# Altium schematic symbol library Resistor_0805.SchLib: 259 symbols (part 4 of 6)
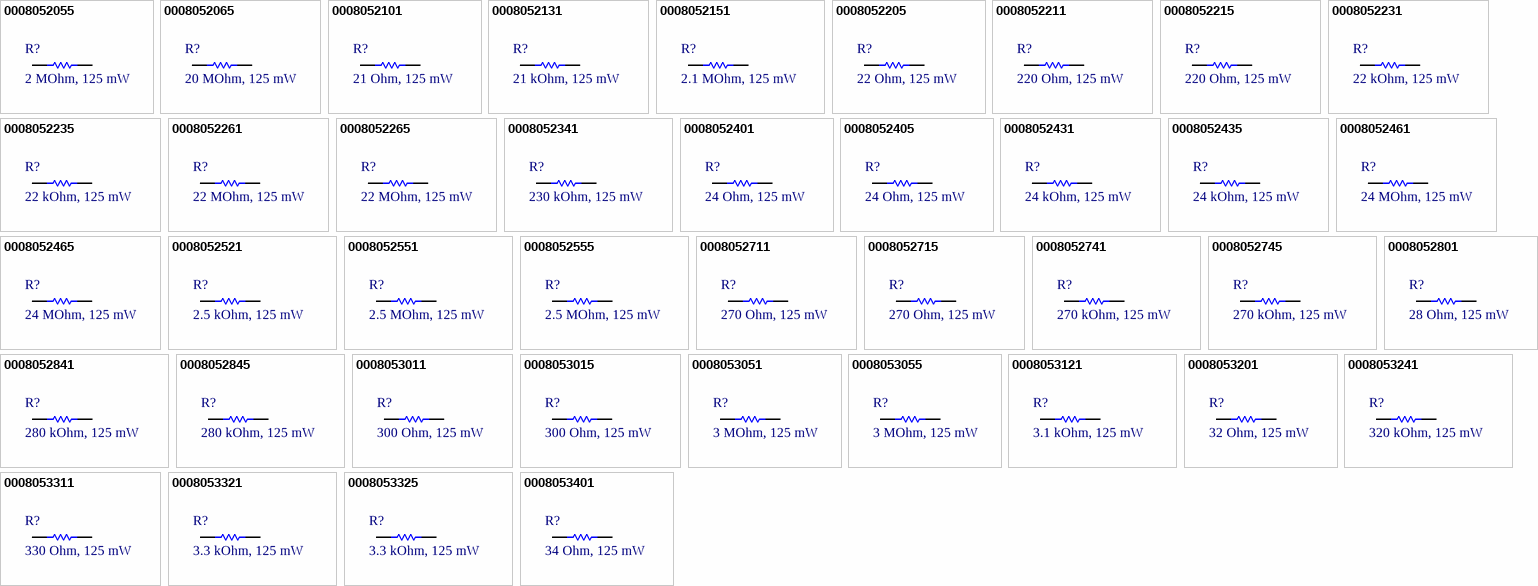
[diagram p9: symbols 0008052055 to 0008053401]

## 0008052341
designator R?, comment 230 kOhm, 125 mW
RES, size 0805, 230 kOhm, 1/8 W, 1%; Manufacturer: Royalohm; Manufacturer Part Number: 0805W8F2303T5E; Rated Power: 125 mW; Tolerance: +/-1%; Resistance: 230 kOhm; Supplier 1 URL: https://www.mouser.vn/ProductDetail/Royalohm/0805W8F2303T5E?qs=e8oIoAS2J1TfhjSl20ty9Q%3D%3D; Supplier 2 URL: N/A; Supplier 3 URL: N/A; Value: 230 kOhm; Packaging: Tape and Reel; Supplier 1: Mouser; Supplier 1 Part Number: 303-0805W8F2303T5E; Supplier 2: Digi-Key; Supplier 2 Part Number: N/A; Supplier 3: thegioiic; Supplier 3 Part Number: OEM; ComponentLink1Description: Datasheet; ComponentLink1URL: https://www.mouser.vn/datasheet/2/1365/1-3044649.pdf; Mount: SMD/SMT; Operating Temperature Max: + 85 C; Operating Temperature Min: - 40 C; Package / Case: 0805; LCSC Part #: N/A
footprint RES_0805 (Chip Resistor, 2-Leads, Body 2.05x1.25mm, IPC Medium Density)
simulation model R_Resistor_Default (Model Description)
signal-integrity model Resistor Model
pins: 1, 2

## 0008052401
designator R?, comment 24 Ohm, 125 mW
RES, size 0805, 24 Ohm, 1/8 W, 1%; Manufacturer: Bourns; Manufacturer Part Number: CR0805-FX-24R0ELF; Rated Power: 125 mW; Resistance: 24 Ohm; Value: 24 Ohm; Tolerance: +/-1%; Supplier 1 URL: https://www.mouser.vn/ProductDetail/Bourns/CR0805-FX-24R0ELF?qs=4vGXhLEMbUyS5LbGuwLBiw%3D%3D; Supplier 2 URL: https://www.digikey.com/en/products/detail/yageo/RC0805FR-0724RL/727755; Supplier 3 URL: N/A; Packaging: Tape and Reel; Supplier 1: Mouser; Supplier 1 Part Number: 652-CR0805FX-24R0ELF; Supplier 2: Digi-Key; Supplier 2 Part Number: 311-24.0CRTR-ND - Tape & Reel (TR); Supplier 3: thegioiic; Supplier 3 Part Number: OEM; ComponentLink1Description: Datasheet; ComponentLink1URL: https://www.mouser.vn/datasheet/2/54/cr-1858361.pdf; Mount: SMD/SMT; Operating Temperature Max: + 85 C; Operating Temperature Min: - 40 C; Package / Case: 0805; LCSC Part #: N/A
footprint RES_0805 (Chip Resistor, 2-Leads, Body 2.05x1.25mm, IPC Medium Density)
simulation model R_Resistor_Default (Model Description)
signal-integrity model Resistor Model
pins: 1, 2

## 0008052405
designator R?, comment 24 Ohm, 125 mW
RES, size 0805, 24 Ohm, 1/8 W, 5%; Manufacturer: YAGEO; Manufacturer Part Number: AR0805JR-0724RL; Rated Power: 125 mW; Resistance: 24 Ohm; Value: 24 Ohm; Tolerance: +/-5%; Supplier 1 URL: https://www.mouser.vn/ProductDetail/YAGEO/AR0805JR-0724RL?qs=tub3WQyKOl9Td0xHEAWkDQ%3D%3D; Supplier 2 URL: https://www.digikey.com/en/products/detail/yageo/RC0805JR-0724RL/728289; Supplier 3 URL: https://www.thegioiic.com/dien-tro-24-ohm-0805-5-; Packaging: Tape and Reel; Supplier 1: Mouser; Supplier 1 Part Number: 603-AR0805JR-0724RL; Supplier 2: Digi-Key; Supplier 2 Part Number: 311-24ARTR-ND - Tape & Reel (TR); Supplier 3: thegioiic; Supplier 3 Part Number: OEM; ComponentLink1Description: Datasheet; ComponentLink1URL: https://www.mouser.vn/datasheet/2/447/PYu_AR_51_RoHS_L_7-3003081.pdf; Mount: SMD/SMT; Operating Temperature Max: + 85 C; Operating Temperature Min: - 40 C; Package / Case: 0805; LCSC Part #: N/A
footprint RES_0805 (Chip Resistor, 2-Leads, Body 2.05x1.25mm, IPC Medium Density)
simulation model R_Resistor_Default (Model Description)
signal-integrity model Resistor Model
pins: 1, 2

## 0008052431
designator R?, comment 24 kOhm, 125 mW
RES, size 0805, 24 kOhm, 1/8 W, 1%; Manufacturer: TE Connectivity / Holsworthy; Manufacturer Part Number: CRG0805F24K; Rated Power: 125 mW; Resistance: 24 kOhm; Value: 24 kOhm; Tolerance: +/-1%; Supplier 1 URL: https://www.mouser.vn/ProductDetail/TE-Connectivity-Holsworthy/CRG0805F24K?qs=5Dj%252BCDyFp7jSU1utfpqO1w%3D%3D; Supplier 2 URL: https://www.digikey.com/en/products/detail/yageo/RC0805FR-0724KL/727756; Supplier 3 URL: N/A; Packaging: Tape and Reel; Supplier 1: Mouser; Supplier 1 Part Number: 279-CRG0805F24K; Supplier 2: Digi-Key; Supplier 2 Part Number: 311-24.0KCRTR-ND - Tape & Reel (TR); Supplier 3: thegioiic; Supplier 3 Part Number: OEM; ComponentLink1Description: Datasheet; ComponentLink1URL: https://www.mouser.vn/datasheet/2/418/NG_CD_1623163_BA-655702.pdf; Mount: SMD/SMT; Operating Temperature Max: + 85 C; Operating Temperature Min: - 40 C; Package / Case: 0805; LCSC Part #: N/A
footprint RES_0805 (Chip Resistor, 2-Leads, Body 2.05x1.25mm, IPC Medium Density)
simulation model R_Resistor_Default (Model Description)
signal-integrity model Resistor Model
pins: 1, 2

## 0008052435
designator R?, comment 24 kOhm, 125 mW
RES, size 0805, 24 kOhm, 1/8 W, 5%; Manufacturer: Bourns; Manufacturer Part Number: CR0805-JW-243ELF; Rated Power: 125 mW; Resistance: 24 kOhm; Value: 24 kOhm; Tolerance: +/-5%; Supplier 1 URL: https://www.mouser.vn/ProductDetail/Bourns/CR0805-JW-243ELF?qs=%252BcBkmVQIZ2SWVtow93mBjQ%3D%3D; Supplier 2 URL: https://www.digikey.com/en/products/detail/bourns-inc/CR0805-JW-243ELF/3785280; Supplier 3 URL: https://www.thegioiic.com/dien-tro-24-kohm-0805-5; Packaging: Tape and Reel; Supplier 1: Mouser; Supplier 1 Part Number: 652-CR0805JW-243ELF; Supplier 2: Digi-Key; Supplier 2 Part Number: 118-CR0805-JW-243ELFTR-ND - Tape & Reel (TR); Supplier 3: thegioiic; Supplier 3 Part Number: OEM; ComponentLink1Description: Datasheet; ComponentLink1URL: https://www.mouser.vn/datasheet/2/418/NG_CD_1623163_BA-655702.pdf; Mount: SMD/SMT; Operating Temperature Max: + 85 C; Operating Temperature Min: - 40 C; Package / Case: 0805; LCSC Part #: N/A
footprint RES_0805 (Chip Resistor, 2-Leads, Body 2.05x1.25mm, IPC Medium Density)
simulation model R_Resistor_Default (Model Description)
signal-integrity model Resistor Model
pins: 1, 2

## 0008052461
designator R?, comment 24 MOhm, 125 mW
RES, size 0805, 24 MOhm, 1/8 W, 1%; Manufacturer: KOA Speer Electronics, Inc.; Manufacturer Part Number: HV732HTTE2405F; Rated Power: 125 mW; Resistance: 24 MOhm; Value: 24 MOhm; Tolerance: +/-1%; Supplier 1 URL: N/A; Supplier 2 URL: https://www.digikey.com/en/products/detail/koa-speer-electronics-inc/HV732HTTE2405F/10132853?s=N4IgjCBcoMxaBjKAzAhgGwM4FMA0IB7KAbXDBggF18AHAFyhAGU6AnASwDsBzEAX3wAmAAwAOAKzwQSSGix5CJEIIAsAAgCyAeQAWAW0whqIeowCqndnS3IN2VJgCurbPz58gA; Supplier 3 URL: N/A; Packaging: Tape and Reel; Supplier 1: Mouser; Supplier 1 Part Number: N/A; Supplier 2: Digi-Key; Supplier 2 Part Number: 2019-HV732HTTE2405FTR-ND - Tape & Reel (TR); Supplier 3: thegioiic; Supplier 3 Part Number: OEM; ComponentLink1Description: Datasheet; ComponentLink1URL: https://www.koaspeer.com/pdfs/HV73.pdf; Mount: SMD/SMT; Operating Temperature Max: + 85 C; Operating Temperature Min: - 40 C; Package / Case: 0805; LCSC Part #: N/A
footprint RES_0805 (Chip Resistor, 2-Leads, Body 2.05x1.25mm, IPC Medium Density)
simulation model R_Resistor_Default (Model Description)
signal-integrity model Resistor Model
pins: 1, 2

## 0008052465
designator R?, comment 24 MOhm, 125 mW
RES, size 0805, 24 MOhm, 1/8 W, 5%; Manufacturer: KOA Speer Electronics, Inc.; Manufacturer Part Number: HV732ATTD246J; Rated Power: 125 mW; Resistance: 24 MOhm; Value: 24 MOhm; Tolerance: +/-5%; Supplier 1 URL: N/A; Supplier 2 URL: https://www.mouser.vn/ProductDetail/KOA-Speer/HV732ATTD246J?qs=UGeEjMFwUpRa%252BFVrwwDXrw%3D%3D; Supplier 3 URL: N/A; Packaging: Tape and Reel; Supplier 1: Mouser; Supplier 1 Part Number: N/A; Supplier 2: Digi-Key; Supplier 2 Part Number: 660-HV732ATTD246J; Supplier 3: thegioiic; Supplier 3 Part Number: OEM; ComponentLink1Description: Datasheet; ComponentLink1URL: https://www.mouser.vn/datasheet/2/219/HV73-11287.pdf; Mount: SMD/SMT; Operating Temperature Max: + 85 C; Operating Temperature Min: - 40 C; Package / Case: 0805; LCSC Part #: N/A
footprint RES_0805 (Chip Resistor, 2-Leads, Body 2.05x1.25mm, IPC Medium Density)
simulation model R_Resistor_Default (Model Description)
signal-integrity model Resistor Model
pins: 1, 2

## 0008052521
designator R?, comment 2.5 kOhm, 125 mW
RES, size 0805, 2.5 kOhm, 1/8 W, 1%; Manufacturer: Royalohm; Manufacturer Part Number: 0805W8F2501T5E; Rated Power: 125 mW; Tolerance: +/-1%; Resistance: 2.5 kOhm; Supplier 1 URL: https://www.mouser.vn/ProductDetail/Royalohm/0805W8F2501T5E?qs=e8oIoAS2J1Qc4Ic0dQUBsw%3D%3D; Supplier 2 URL: https://www.digikey.com/en/products/detail/meritek/CR102501F/13414399; Supplier 3 URL: N/A; Value: 2.5 kOhm; Packaging: Tape and Reel; Supplier 1: Mouser; Supplier 1 Part Number: 303-0805W8F2501T5E; Supplier 2: Digi-Key; Supplier 2 Part Number: 2997-CR102501FTR-ND - Tape & Reel (TR); Supplier 3: thegioiic; Supplier 3 Part Number: OEM; ComponentLink1Description: Datasheet; ComponentLink1URL: https://www.mouser.vn/datasheet/2/1365/1-3044649.pdf; Mount: SMD/SMT; Operating Temperature Max: + 85 C; Operating Temperature Min: - 40 C; Package / Case: 0805; LCSC Part #: N/A
footprint RES_0805 (Chip Resistor, 2-Leads, Body 2.05x1.25mm, IPC Medium Density)
simulation model R_Resistor_Default (Model Description)
signal-integrity model Resistor Model
pins: 1, 2

## 0008052551
designator R?, comment 2.5 MOhm, 125 mW
RES, size 0805, 2.5 MOhm, 1/8 W, 1%; Manufacturer: Royalohm; Manufacturer Part Number: 0805W8F2504T5E; Rated Power: 125 mW; Tolerance: +/-1%; Resistance: 2.5 MOhm; Supplier 1 URL: https://www.mouser.vn/ProductDetail/Royalohm/0805W8F2504T5E?qs=e8oIoAS2J1Q2l7BgYnDvGQ%3D%3D; Supplier 2 URL: N/A; Supplier 3 URL: N/A; Value: 2.5 MOhm; Packaging: Tape and Reel; Supplier 1: Mouser; Supplier 1 Part Number: 303-0805W8F2504T5E; Supplier 2: Digi-Key; Supplier 2 Part Number: N/A; Supplier 3: thegioiic; Supplier 3 Part Number: OEM; ComponentLink1Description: Datasheet; ComponentLink1URL: https://www.mouser.vn/datasheet/2/1365/1-3044649.pdf; Mount: SMD/SMT; Operating Temperature Max: + 85 C; Operating Temperature Min: - 40 C; Package / Case: 0805; LCSC Part #: N/A
footprint RES_0805 (Chip Resistor, 2-Leads, Body 2.05x1.25mm, IPC Medium Density)
simulation model R_Resistor_Default (Model Description)
signal-integrity model Resistor Model
pins: 1, 2

## 0008052555
designator R?, comment 2.5 MOhm, 125 mW
RES, size 0805, 2.5 MOhm, 1/8 W, 5%; Manufacturer: Ohmite; Manufacturer Part Number: HVC0805T2504JET; Rated Power: 125 mW; Tolerance: +/-5%; Resistance: 2.5 MOhm; Supplier 1 URL: https://www.mouser.vn/ProductDetail/Ohmite/HVC0805T2504JET?qs=wolJx%252BcPnTpZSJA41zZzFA%3D%3D; Supplier 2 URL: https://www.digikey.com/en/products/detail/ohmite/HVC0805T2504JET/4759727; Supplier 3 URL: N/A; Value: 2.5 MOhm; Packaging: Tape and Reel; Supplier 1: Mouser; Supplier 1 Part Number: 588-HVC0805T2504JET; Supplier 2: Digi-Key; Supplier 2 Part Number: HVC0805T2504JETTR-ND - Tape & Reel (TR); Supplier 3: thegioiic; Supplier 3 Part Number: OEM; ComponentLink1Description: Datasheet; ComponentLink1URL: https://www.mouser.vn/datasheet/2/303/res_hvc-3082600.pdf; Mount: SMD/SMT; Operating Temperature Max: + 85 C; Operating Temperature Min: - 40 C; Package / Case: 0805; LCSC Part #: N/A
footprint RES_0805 (Chip Resistor, 2-Leads, Body 2.05x1.25mm, IPC Medium Density)
simulation model R_Resistor_Default (Model Description)
signal-integrity model Resistor Model
pins: 1, 2

## 0008052711
designator R?, comment 270 Ohm, 125 mW
RES, size 0805, 270 Ohm, 1/8 W, 1%; Manufacturer: Bourns; Manufacturer Part Number: CR0805-FX-2700ELF; Rated Power: 125 mW; Resistance: 270 Ohm; Value: 270 Ohm; Tolerance: +/-1%; Supplier 1 URL: https://www.mouser.vn/ProductDetail/Bourns/CR0805-FX-2700ELF?qs=4vGXhLEMbUwfoxAMFQ260A%3D%3D; Supplier 2 URL: https://www.digikey.com/en/products/detail/yageo/RC0805FR-07270RL/727783; Supplier 3 URL: N/A; Packaging: Tape and Reel; Supplier 1: Mouser; Supplier 1 Part Number: 652-CR0805FX-2700ELF; Supplier 2: Digi-Key; Supplier 2 Part Number: 311-270CRTR-ND - Tape & Reel (TR); Supplier 3: thegioiic; Supplier 3 Part Number: OEM; ComponentLink1Description: Datasheet; ComponentLink1URL: https://www.mouser.vn/datasheet/2/54/cr-1858361.pdf; Mount: SMD/SMT; Operating Temperature Max: + 85 C; Operating Temperature Min: - 40 C; Package / Case: 0805; LCSC Part #: N/A
footprint RES_0805 (Chip Resistor, 2-Leads, Body 2.05x1.25mm, IPC Medium Density)
simulation model R_Resistor_Default (Model Description)
signal-integrity model Resistor Model
pins: 1, 2

## 0008052715
designator R?, comment 270 Ohm, 125 mW
RES, size 0805, 270 Ohm, 1/8 W, 5%; Manufacturer: Bourns; Manufacturer Part Number: CR0805-JW-271ELF; Rated Power: 125 mW; Resistance: 270 Ohm; Value: 270 Ohm; Tolerance: +/-5%; Supplier 1 URL: https://www.mouser.vn/ProductDetail/Bourns/CR0805-JW-271ELF?qs=%252BcBkmVQIZ2R7GER%2FjClJmw%3D%3D; Supplier 2 URL: https://www.digikey.com/en/products/detail/bourns-inc/CR0805-JW-271ELF/3785284; Supplier 3 URL: https://www.thegioiic.com/dien-tro-270-ohm-0805-5; Packaging: Tape and Reel; Supplier 1: Mouser; Supplier 1 Part Number: 652-CR0805JW-271ELF; Supplier 2: Digi-Key; Supplier 2 Part Number: 118-CR0805-JW-271ELFTR-ND - Tape & Reel (TR); Supplier 3: thegioiic; Supplier 3 Part Number: OEM; ComponentLink1Description: Datasheet; ComponentLink1URL: https://www.mouser.vn/datasheet/2/54/cr-1858361.pdf; Mount: SMD/SMT; Operating Temperature Max: + 85 C; Operating Temperature Min: - 40 C; Package / Case: 0805; LCSC Part #: N/A
footprint RES_0805 (Chip Resistor, 2-Leads, Body 2.05x1.25mm, IPC Medium Density)
simulation model R_Resistor_Default (Model Description)
signal-integrity model Resistor Model
pins: 1, 2

## 0008052741
designator R?, comment 270 kOhm, 125 mW
RES, size 0805, 270 kOhm, 1/8 W, 1%; Manufacturer: Panasonic; Manufacturer Part Number: ERJ-6ENF2703V; Rated Power: 125 mW; Tolerance: +/-1%; Resistance: 270 kOhm; Supplier 1 URL: https://www.mouser.vn/ProductDetail/Panasonic/ERJ-6ENF2703V?qs=50QC8w71jAsIUsFp0TwUKw%3D%3D; Supplier 2 URL: https://www.digikey.com/en/products/detail/yageo/RC0805FR-07270KL/727784; Supplier 3 URL: N/A; Value: 270 kOhm; Packaging: Tape and Reel; Supplier 1: Mouser; Supplier 1 Part Number: 667-ERJ-6ENF2703V; Supplier 2: Digi-Key; Supplier 2 Part Number: 311-270KCRTR-ND - Tape & Reel (TR); Supplier 3: thegioiic; Supplier 3 Part Number: OEM; ComponentLink1Description: Datasheet; ComponentLink1URL: https://www.mouser.vn/datasheet/2/315/AOA0000C304-1149620.pdf; Mount: SMD/SMT; Operating Temperature Max: + 85 C; Operating Temperature Min: - 40 C; Package / Case: 0805; LCSC Part #: N/A
footprint RES_0805 (Chip Resistor, 2-Leads, Body 2.05x1.25mm, IPC Medium Density)
simulation model R_Resistor_Default (Model Description)
signal-integrity model Resistor Model
pins: 1, 2

## 0008052745
designator R?, comment 270 kOhm, 125 mW
RES, size 0805, 270 kOhm, 1/8 W, 5%; Manufacturer: Panasonic; Manufacturer Part Number: ERJ-6GEYJ274V; Rated Power: 125 mW; Tolerance: +/-5%; Resistance: 270 kOhm; Supplier 1 URL: https://www.mouser.vn/ProductDetail/Panasonic/ERJ-6GEYJ274V?qs=8%252BG0TiN%2FgVoTZyZKP1v2zQ%3D%3D; Supplier 2 URL: https://www.digikey.com/en/products/detail/panasonic-electronic-components/ERJ-6GEYJ274V/83130; Supplier 3 URL: https://www.thegioiic.com/dien-tro-270-kohm-0805-5; Value: 270 kOhm; Packaging: Tape and Reel; Supplier 1: Mouser; Supplier 1 Part Number: 667-ERJ-6GEYJ274V; Supplier 2: Digi-Key; Supplier 2 Part Number: P270KATR-ND - Tape & Reel (TR); Supplier 3: thegioiic; Supplier 3 Part Number: OEM; ComponentLink1Description: Datasheet; ComponentLink1URL: https://www.mouser.vn/datasheet/2/315/AOA0000C301-1488782.pdf; Mount: SMD/SMT; Operating Temperature Max: + 85 C; Operating Temperature Min: - 40 C; Package / Case: 0805; LCSC Part #: N/A
footprint RES_0805 (Chip Resistor, 2-Leads, Body 2.05x1.25mm, IPC Medium Density)
simulation model R_Resistor_Default (Model Description)
signal-integrity model Resistor Model
pins: 1, 2

## 0008052801
designator R?, comment 28 Ohm, 125 mW
RES, size 0805, 28 Ohm, 1/8 W, 1%; Manufacturer: Panasonic; Manufacturer Part Number: ERJ-6ENF28R0V; Rated Power: 125 mW; Resistance: 28 Ohm; Value: 28 Ohm; Tolerance: +/-1%; Supplier 1 URL: https://www.mouser.vn/ProductDetail/Panasonic/ERJ-6ENF28R0V?qs=50QC8w71jAuRG2tW%252B3oKbA%3D%3D; Supplier 2 URL: https://www.digikey.com/en/products/detail/panasonic-electronic-components/ERJ-6ENF28R0V/110979; Supplier 3 URL: N/A; Packaging: Tape and Reel; Supplier 1: Mouser; Supplier 1 Part Number: 667-ERJ-6ENF28R0V; Supplier 2: Digi-Key; Supplier 2 Part Number: P28.0CTR-ND - Tape & Reel (TR); Supplier 3: thegioiic; Supplier 3 Part Number: OEM; ComponentLink1Description: Datasheet; ComponentLink1URL: https://www.mouser.vn/datasheet/2/315/AOA0000C304-1149620.pdf; Mount: SMD/SMT; Operating Temperature Max: + 85 C; Operating Temperature Min: - 40 C; Package / Case: 0805; LCSC Part #: N/A
footprint RES_0805 (Chip Resistor, 2-Leads, Body 2.05x1.25mm, IPC Medium Density)
simulation model R_Resistor_Default (Model Description)
signal-integrity model Resistor Model
pins: 1, 2

## 0008052841
designator R?, comment 280 kOhm, 125 mW
RES, size 0805, 280 kOhm, 1/8 W, 1%; Manufacturer: Bourns; Manufacturer Part Number: CR0805-FX-2803ELF; Rated Power: 125 mW; Tolerance: +/-1%; Resistance: 280 kOhm; Supplier 1 URL: https://www.mouser.vn/ProductDetail/Bourns/CR0805-FX-2803ELF?qs=4vGXhLEMbUxB3cDlEY4HEQ%3D%3D; Supplier 2 URL: https://www.digikey.com/en/products/detail/yageo/RC0805FR-07280KL/727792; Supplier 3 URL: N/A; Value: 280 kOhm; Packaging: Tape and Reel; Supplier 1: Mouser; Supplier 1 Part Number: 652-CR0805FX-2803ELF; Supplier 2: Digi-Key; Supplier 2 Part Number: 311-280KCRTR-ND - Tape & Reel (TR); Supplier 3: thegioiic; Supplier 3 Part Number: OEM; ComponentLink1Description: Datasheet; ComponentLink1URL: https://www.mouser.vn/datasheet/2/54/cr-1858361.pdf; Mount: SMD/SMT; Operating Temperature Max: + 85 C; Operating Temperature Min: - 40 C; Package / Case: 0805; LCSC Part #: N/A
footprint RES_0805 (Chip Resistor, 2-Leads, Body 2.05x1.25mm, IPC Medium Density)
simulation model R_Resistor_Default (Model Description)
signal-integrity model Resistor Model
pins: 1, 2

## 0008052845
designator R?, comment 280 kOhm, 125 mW
RES, size 0805, 280 kOhm, 1/8 W, 5%; Manufacturer: Royalohm; Manufacturer Part Number: HV05W8J0284T5E; Rated Power: 125 mW; Tolerance: +/-5%; Resistance: 280 kOhm; Supplier 1 URL: https://www.mouser.vn/ProductDetail/Royalohm/HV05W8J0284T5E?qs=Wj%2FVkw3K%252BMC%252B5QnCuawYGQ%3D%3D; Supplier 2 URL: N/A; Supplier 3 URL: N/A; Value: 280 kOhm; Packaging: Tape and Reel; Supplier 1: Mouser; Supplier 1 Part Number: 303-HV05W8J0284T5E; Supplier 2: Digi-Key; Supplier 2 Part Number: N/A; Supplier 3: thegioiic; Supplier 3 Part Number: OEM; ComponentLink1Description: Datasheet; ComponentLink1URL: https://www.mouser.vn/datasheet/2/1365/HighVoltageHV-2525183.pdf; Mount: SMD/SMT; Operating Temperature Max: + 85 C; Operating Temperature Min: - 40 C; Package / Case: 0805; LCSC Part #: N/A
footprint RES_0805 (Chip Resistor, 2-Leads, Body 2.05x1.25mm, IPC Medium Density)
simulation model R_Resistor_Default (Model Description)
signal-integrity model Resistor Model
pins: 1, 2

## 0008053011
designator R?, comment 300 Ohm, 125 mW
RES, size 0805, 300 Ohm, 1/8 W, 1%; Manufacturer: YAGEO; Manufacturer Part Number: RC0805FR-07300RL; Rated Power: 125 mW; Resistance: 300 Ohm; Value: 300 Ohm; Tolerance: +/-1%; Supplier 1 URL: https://www.mouser.com/ProductDetail/YAGEO/RC0805FR-07300RL?qs=g6xwsc4j%252B%2FrMXIlhHW6fRQ%3D%3D; Supplier 2 URL: https://www.digikey.com/en/products/detail/yageo/rc0805fr-07300rl/727848; Supplier 3 URL: https://www.thegioiic.com/dien-tro-300-ohm-0805-1-; Packaging: Tape and Reel; Supplier 1: Mouser; Supplier 1 Part Number: 603-RC0805FR-07300RL; Supplier 2: Digi-Key; Supplier 2 Part Number: 311-300CRTR-ND; Supplier 3: thegioiic; Supplier 3 Part Number: OEM; ComponentLink1Description: Datasheet; ComponentLink1URL: https://www.mouser.com/datasheet/2/447/YAGEO_PYu_RC_Group_51_RoHS_L_12-3313492.pdf; Mount: SMD/SMT; Operating Temperature Max: + 85 C; Operating Temperature Min: - 40 C; Package / Case: 0805; LCSC Part #: C114529
footprint RES_0805 (Chip Resistor, 2-Leads, Body 2.05x1.25mm, IPC Medium Density)
simulation model R_Resistor_Default (Model Description)
signal-integrity model Resistor Model
pins: 1, 2

## 0008053015
designator R?, comment 300 Ohm, 125 mW
RES, size 0805, 300 Ohm, 1/8 W, 5%; Manufacturer: Panasonic; Manufacturer Part Number: ERJ-U06J301V; Rated Power: 125 mW; Resistance: 300 Ohm; Value: 300 Ohm; Tolerance: +/-5%; Supplier 1 URL: https://www.mouser.vn/ProductDetail/Panasonic/ERJ-U06J301V?qs=Yyy8avaXlIukLi0FzhyiCQ%3D%3D; Supplier 2 URL: https://www.digikey.com/en/products/detail/panasonic-electronic-components/ERJ-6GEYJ301V/89720; Supplier 3 URL: https://www.thegioiic.com/dien-tro-300-ohm-0805-5; Packaging: Tape and Reel; Supplier 1: Mouser; Supplier 1 Part Number: 667-ERJ-U06J301V; Supplier 2: Digi-Key; Supplier 2 Part Number: P300ATR-ND - Tape & Reel (TR); Supplier 3: thegioiic; Supplier 3 Part Number: OEM; ComponentLink1Description: Datasheet; ComponentLink1URL: https://www.mouser.vn/datasheet/2/315/AOA0000C334-1314047.pdf; Mount: SMD/SMT; Operating Temperature Max: + 85 C; Operating Temperature Min: - 40 C; Package / Case: 0805; LCSC Part #: N/A
footprint RES_0805 (Chip Resistor, 2-Leads, Body 2.05x1.25mm, IPC Medium Density)
simulation model R_Resistor_Default (Model Description)
signal-integrity model Resistor Model
pins: 1, 2

## 0008053051
designator R?, comment 3 MOhm, 125 mW
RES, size 0805, 3 MOhm, 1/8 W, 1%; Manufacturer: Vishay / Dale; Manufacturer Part Number: CRCW08053M00FKEA; Rated Power: 125 mW; Resistance: 3 MOhm; Value: 3 MOhm; Tolerance: +/-1%; Supplier 1 URL: https://www.mouser.vn/ProductDetail/Vishay-Dale/CRCW08053M00FKEA?qs=kJXytlGtIWmJu2iuqz4MEQ%3D%3D; Supplier 2 URL: https://www.digikey.com/en/products/detail/rohm-semiconductor/KTR10EZPF3004/1983650; Supplier 3 URL: N/A; Packaging: Tape and Reel; Supplier 1: Mouser; Supplier 1 Part Number: 71-CRCW08053M00FKEA; Supplier 2: Digi-Key; Supplier 2 Part Number: RHM3.00MAHTR-ND - Tape & Reel (TR); Supplier 3: thegioiic; Supplier 3 Part Number: OEM; ComponentLink1Description: Datasheet; ComponentLink1URL: https://www.vishay.com/doc?20035; Mount: SMD/SMT; Operating Temperature Max: + 85 C; Operating Temperature Min: - 40 C; Package / Case: 0805; LCSC Part #: N/A
footprint RES_0805 (Chip Resistor, 2-Leads, Body 2.05x1.25mm, IPC Medium Density)
simulation model R_Resistor_Default (Model Description)
signal-integrity model Resistor Model
pins: 1, 2

## 0008053055
designator R?, comment 3 MOhm, 125 mW
RES, size 0805, 3 MOhm, 1/8 W, 5%; Manufacturer: Panasonic; Manufacturer Part Number: ERJ-6GEYJ305V; Rated Power: 125 mW; Resistance: 3 MOhm; Value: 3 MOhm; Tolerance: +/-5%; Supplier 1 URL: https://www.mouser.vn/ProductDetail/Panasonic/ERJ-6GEYJ305V?qs=YMBIwoNQYdW%2FI7cx0FQYDA%3D%3D; Supplier 2 URL: https://www.digikey.com/en/products/detail/panasonic-electronic-components/ERJ-6GEYJ305V/282179; Supplier 3 URL: N/A; Packaging: Tape and Reel; Supplier 1: Mouser; Supplier 1 Part Number: 667-ERJ-6GEYJ305V; Supplier 2: Digi-Key; Supplier 2 Part Number: P3.0MATR-ND - Tape & Reel (TR); Supplier 3: thegioiic; Supplier 3 Part Number: OEM; ComponentLink1Description: Datasheet; ComponentLink1URL: https://www.mouser.vn/datasheet/2/315/AOA0000C301-1488782.pdf; Mount: SMD/SMT; Operating Temperature Max: + 85 C; Operating Temperature Min: - 40 C; Package / Case: 0805; LCSC Part #: N/A
footprint RES_0805 (Chip Resistor, 2-Leads, Body 2.05x1.25mm, IPC Medium Density)
simulation model R_Resistor_Default (Model Description)
signal-integrity model Resistor Model
pins: 1, 2

## 0008053121
designator R?, comment 3.1 kOhm, 125 mW
RES, size 0805, 3.1 kOhm, 1/8 W, 1%; Manufacturer: Royalohm; Manufacturer Part Number: 0805W8F3101T5E; Rated Power: 125 mW; Tolerance: +/-1%; Resistance: 3.1 kOhm; Supplier 1 URL: https://www.mouser.vn/ProductDetail/Royalohm/0805W8F3101T5E?qs=e8oIoAS2J1Tf1Mb5mAEVdw%3D%3D; Supplier 2 URL: N/A; Supplier 3 URL: N/A; Value: 3.1 kOhm; Packaging: Tape and Reel; Supplier 1: Mouser; Supplier 1 Part Number: 303-0805W8F3101T5E; Supplier 2: Digi-Key; Supplier 2 Part Number: N/A; Supplier 3: thegioiic; Supplier 3 Part Number: OEM; ComponentLink1Description: Datasheet; ComponentLink1URL: https://www.mouser.vn/datasheet/2/1365/1-3044649.pdf; Mount: SMD/SMT; Operating Temperature Max: + 85 C; Operating Temperature Min: - 40 C; Package / Case: 0805; LCSC Part #: N/A
footprint RES_0805 (Chip Resistor, 2-Leads, Body 2.05x1.25mm, IPC Medium Density)
simulation model R_Resistor_Default (Model Description)
signal-integrity model Resistor Model
pins: 1, 2

## 0008053201
designator R?, comment 32 Ohm, 125 mW
RES, size 0805, 32 Ohm, 1/8 W, 1%; Manufacturer: KOA Speer Electronics, Inc.; Manufacturer Part Number: RN73R2ATTD32R0F100; Rated Power: 125 mW; Resistance: 32 Ohm; Value: 32 Ohm; Tolerance: +/-1%; Supplier 1 URL: N/A; Supplier 2 URL: https://www.digikey.com/en/products/detail/koa-speer-electronics-inc/RN73R2ATTD32R0F100/10030831; Supplier 3 URL: N/A; Packaging: Tape and Reel; Supplier 1: Mouser; Supplier 1 Part Number: N/A; Supplier 2: Digi-Key; Supplier 2 Part Number: 2019-RN73R2ATTD32R0F100TR-ND - Tape & Reel (TR); Supplier 3: thegioiic; Supplier 3 Part Number: OEM; ComponentLink1Description: Datasheet; ComponentLink1URL: https://media.digikey.com/pdf/Data%20Sheets/KOA%20Speer/RN73R_Type_DS.pdf; Mount: SMD/SMT; Operating Temperature Max: + 85 C; Operating Temperature Min: - 40 C; Package / Case: 0805; LCSC Part #: N/A
footprint RES_0805 (Chip Resistor, 2-Leads, Body 2.05x1.25mm, IPC Medium Density)
simulation model R_Resistor_Default (Model Description)
signal-integrity model Resistor Model
pins: 1, 2

## 0008053241
designator R?, comment 320 kOhm, 125 mW
RES, size 0805, 320 kOhm, 1/8 W, 1%; Manufacturer: Royalohm; Manufacturer Part Number: 0805W8F3203T5E; Rated Power: 125 mW; Tolerance: +/-1%; Resistance: 320 kOhm; Supplier 1 URL: https://www.mouser.vn/ProductDetail/Royalohm/0805W8F3203T5E?qs=e8oIoAS2J1SLbDpmWuICGg%3D%3D; Supplier 2 URL: https://www.digikey.com/en/products/detail/koa-speer-electronics-inc/RN73H2ATTD3203F100/10090183; Supplier 3 URL: N/A; Value: 320 kOhm; Packaging: Tape and Reel; Supplier 1: Mouser; Supplier 1 Part Number: 303-0805W8F3203T5E; Supplier 2: Digi-Key; Supplier 2 Part Number: 2019-RN73H2ATTD3203F100TR-ND - Tape & Reel (TR); Supplier 3: thegioiic; Supplier 3 Part Number: OEM; ComponentLink1Description: Datasheet; ComponentLink1URL: https://www.mouser.vn/datasheet/2/1365/1-3044649.pdf; Mount: SMD/SMT; Operating Temperature Max: + 85 C; Operating Temperature Min: - 40 C; Package / Case: 0805; LCSC Part #: N/A
footprint RES_0805 (Chip Resistor, 2-Leads, Body 2.05x1.25mm, IPC Medium Density)
simulation model R_Resistor_Default (Model Description)
signal-integrity model Resistor Model
pins: 1, 2

## 0008053311
designator R?, comment 330 Ohm, 125 mW
RES, size 0805, 330 Ohm, 1/8 W, 1%; Manufacturer: YAGEO; Manufacturer Part Number: RC0805FR-07330RL; Rated Power: 125 mW; Resistance: 330 Ohm; Value: 330 Ohm; Tolerance: +/-1%; Supplier 1 URL: https://www.mouser.vn/ProductDetail/YAGEO/RC0805FR-07100KL?qs=8Y8p%252BasKcI7rEWn6FcVdAA%3D%3D; Supplier 2 URL: https://www.digikey.com/en/products/detail/yageo/rc0805fr-07330rl/727866; Supplier 3 URL: https://www.thegioiic.com/dien-tro-330-ohm-0805-1-; Packaging: Tape and Reel; Supplier 1: Mouser; Supplier 1 Part Number: 603-RC0805FR-07100KL; Supplier 2: Digi-Key; Supplier 2 Part Number: 311-330CRTR-ND; Supplier 3: thegioiic; Supplier 3 Part Number: 330 Ohm 0805 1% (OEM); ComponentLink1Description: Datasheet; ComponentLink1URL: https://www.mouser.vn/datasheet/2/447/YAGEO_PYu_RC_Group_51_RoHS_L_12-3313492.pdf; Mount: SMD/SMT; Operating Temperature Max: + 85 C; Operating Temperature Min: - 40 C; Package / Case: 0805; LCSC Part #: C105878
footprint RES_0805 (Chip Resistor, 2-Leads, Body 2.05x1.25mm, IPC Medium Density)
simulation model R_Resistor_Default (Model Description)
signal-integrity model Resistor Model
pins: 1, 2

## 0008053321
designator R?, comment 3.3 kOhm, 125 mW
RES, size 0805, 3.3 kOhm, 1/8 W, 1%; Manufacturer: Panasonic; Manufacturer Part Number: ERJ-6ENF3301V; Rated Power: 125 mW; Tolerance: +/-1%; Resistance: 3.3 kOhm; Supplier 1 URL: https://www.mouser.vn/ProductDetail/Panasonic/ERJ-6ENF3301V?qs=sGAEpiMZZMtlubZbdhIBIGigBIB3A6R9dIvMOtC7jmQ%3D; Supplier 2 URL: https://www.digikey.com/en/products/detail/yageo/RC0805FR-133K3L/14008213; Supplier 3 URL: https://www.thegioiic.com/dien-tro-3-3-kohm-0805-1-; Value: 3.3 kOhm; Packaging: Tape and Reel; Supplier 1: Mouser; Supplier 1 Part Number: 667-ERJ-6ENF3301V; Supplier 2: Digi-Key; Supplier 2 Part Number: 13-RC0805FR-133K3LTR-ND - Tape & Reel (TR); Supplier 3: thegioiic; Supplier 3 Part Number: OEM; ComponentLink1Description: Datasheet; ComponentLink1URL: https://www.mouser.vn/datasheet/2/315/AOA0000C304-1149620.pdf; Mount: SMD/SMT; Operating Temperature Max: + 85 C; Operating Temperature Min: - 40 C; Package / Case: 0805; LCSC Part #: N/A
footprint RES_0805 (Chip Resistor, 2-Leads, Body 2.05x1.25mm, IPC Medium Density)
simulation model R_Resistor_Default (Model Description)
signal-integrity model Resistor Model
pins: 1, 2

## 0008053325
designator R?, comment 3.3 kOhm, 125 mW
RES, size 0805, 3.3 kOhm, 1/8 W, 5%; Manufacturer: Panasonic; Manufacturer Part Number: ERJ-S06J332V; Rated Power: 125 mW; Tolerance: +/-5%; Resistance: 3.3 kOhm; Supplier 1 URL: https://www.mouser.vn/ProductDetail/Panasonic/ERJ-S06J332V?qs=Lnc17S3XxqC89pwdWk%2FMHQ%3D%3D; Supplier 2 URL: https://www.digikey.com/en/products/detail/panasonic-electronic-components/ERJ-6GEYJ332V/83038; Supplier 3 URL: https://www.thegioiic.com/dien-tro-3-3-kohm-0805-5; Value: 3.3 kOhm; Packaging: Tape and Reel; Supplier 1: Mouser; Supplier 1 Part Number: 667-ERJ-S06J332V; Supplier 2: Digi-Key; Supplier 2 Part Number: P3.3KATR-ND - Tape & Reel (TR); Supplier 3: thegioiic; Supplier 3 Part Number: OEM; ComponentLink1Description: Datasheet; ComponentLink1URL: https://www.mouser.vn/datasheet/2/315/AOA0000C334-1314047.pdf; Mount: SMD/SMT; Operating Temperature Max: + 85 C; Operating Temperature Min: - 40 C; Package / Case: 0805; LCSC Part #: N/A
footprint RES_0805 (Chip Resistor, 2-Leads, Body 2.05x1.25mm, IPC Medium Density)
simulation model R_Resistor_Default (Model Description)
signal-integrity model Resistor Model
pins: 1, 2

## 0008053401
designator R?, comment 34 Ohm, 125 mW
RES, size 0805, 34 Ohm, 1/8 W, 1%; Manufacturer: Panasonic; Manufacturer Part Number: ERJ-6ENF34R0V; Rated Power: 125 mW; Resistance: 34 Ohm; Value: 34 Ohm; Tolerance: +/-1%; Supplier 1 URL: https://www.mouser.vn/ProductDetail/Panasonic/ERJ-6ENF34R0V?qs=sGAEpiMZZMtlubZbdhIBIGigBIB3A6R9vyKOoGSmyyY%3D; Supplier 2 URL: https://www.digikey.com/en/products/detail/panasonic-electronic-components/ERJ-6ENF34R0V/110995; Supplier 3 URL: https://www.thegioiic.com/dien-tro-34-kohm-0805-1; Packaging: Tape and Reel; Supplier 1: Mouser; Supplier 1 Part Number: 667-ERJ-6ENF34R0V; Supplier 2: Digi-Key; Supplier 2 Part Number: P34.0CTR-ND - Tape & Reel (TR); Supplier 3: thegioiic; Supplier 3 Part Number: OEM; ComponentLink1Description: Datasheet; ComponentLink1URL: https://www.mouser.vn/datasheet/2/315/AOA0000C304-1149620.pdf; Mount: SMD/SMT; Operating Temperature Max: + 85 C; Operating Temperature Min: - 40 C; Package / Case: 0805; LCSC Part #: N/A
footprint RES_0805 (Chip Resistor, 2-Leads, Body 2.05x1.25mm, IPC Medium Density)
simulation model R_Resistor_Default (Model Description)
signal-integrity model Resistor Model
pins: 1, 2

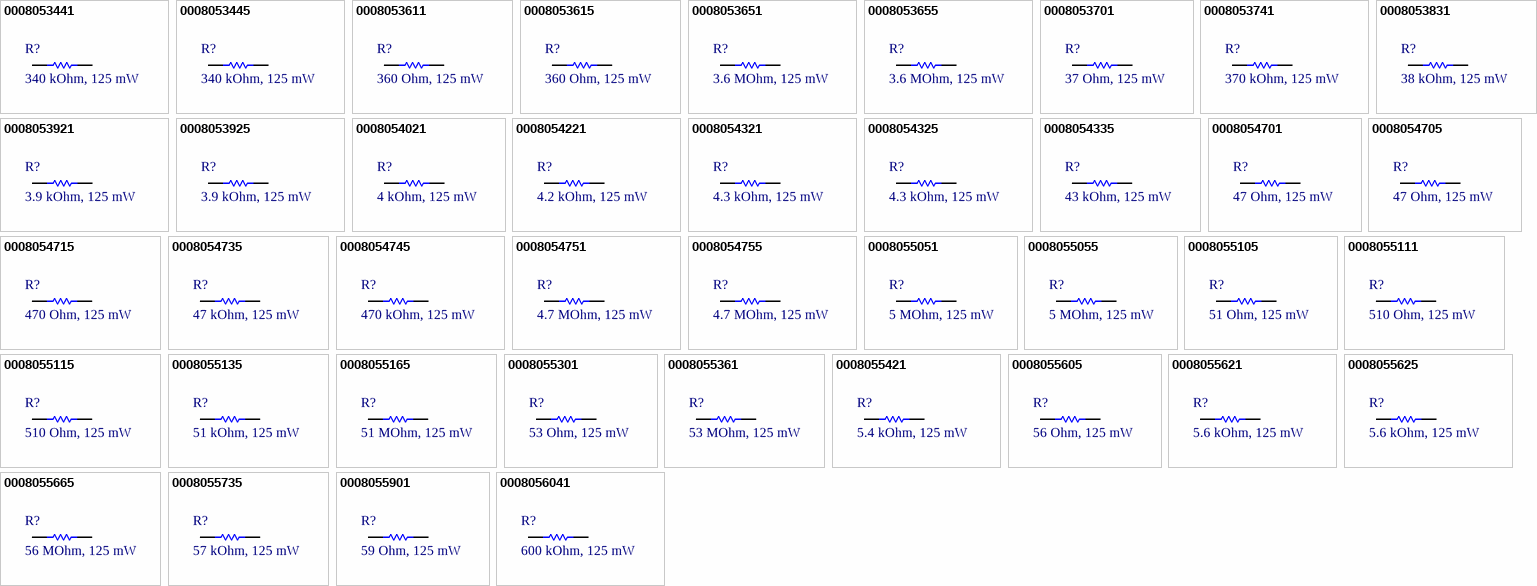
[diagram p4: symbols 0008053441 to 0008056041]

## 0008053441
designator R?, comment 340 kOhm, 125 mW
RES, size 0805, 340 kOhm, 1/8 W, 1%; Manufacturer: Panasonic; Manufacturer Part Number: ERJ-S06F3403V; Rated Power: 125 mW; Tolerance: +/-1%; Resistance: 340 kOhm; Supplier 1 URL: https://www.mouser.vn/ProductDetail/Panasonic/ERJ-S06F3403V?qs=sGAEpiMZZMtlubZbdhIBINuoixIUl6fxeLoMswtFUVs%3D; Supplier 2 URL: https://www.digikey.com/en/products/detail/yageo/RC0805FR-07340KL/727875; Supplier 3 URL: N/A; Value: 340 kOhm; Packaging: Tape and Reel; Supplier 1: Mouser; Supplier 1 Part Number: 667-ERJ-S06F3403V; Supplier 2: Digi-Key; Supplier 2 Part Number: 311-340KCRTR-ND - Tape & Reel (TR); Supplier 3: thegioiic; Supplier 3 Part Number: OEM; ComponentLink1Description: Datasheet; ComponentLink1URL: https://www.mouser.vn/datasheet/2/315/AOA0000C334-1314047.pdf; Mount: SMD/SMT; Operating Temperature Max: + 85 C; Operating Temperature Min: - 40 C; Package / Case: 0805; LCSC Part #: N/A
footprint RES_0805 (Chip Resistor, 2-Leads, Body 2.05x1.25mm, IPC Medium Density)
simulation model R_Resistor_Default (Model Description)
signal-integrity model Resistor Model
pins: 1, 2

## 0008053445
designator R?, comment 340 kOhm, 125 mW
RES, size 0805, 340 kOhm, 1/8 W, 5%; Manufacturer: 756-LHVC0805-340KJT5; Manufacturer Part Number: LHVC0805-340KJT5; Rated Power: 125 mW; Tolerance: +/-5%; Resistance: 340 kOhm; Supplier 1 URL: https://www.mouser.vn/ProductDetail/Welwyn-Components-TT-Electronics/LHVC0805-340KJT5?qs=GY4PX5ytnAgjdzirgpTyKQ%3D%3D; Supplier 2 URL: N/A; Supplier 3 URL: N/A; Value: 340 kOhm; Packaging: Tape and Reel; Supplier 1: Mouser; Supplier 1 Part Number: 756-LHVC0805-340KJT5; Supplier 2: Digi-Key; Supplier 2 Part Number: N/A; Supplier 3: thegioiic; Supplier 3 Part Number: OEM; ComponentLink1Description: Datasheet; ComponentLink1URL: https://www.ttelectronics.com/TTElectronics/media/ProductFiles/Datasheets/LHVC.pdf; Mount: SMD/SMT; Operating Temperature Max: + 85 C; Operating Temperature Min: - 40 C; Package / Case: 0805; LCSC Part #: N/A
footprint RES_0805 (Chip Resistor, 2-Leads, Body 2.05x1.25mm, IPC Medium Density)
simulation model R_Resistor_Default (Model Description)
signal-integrity model Resistor Model
pins: 1, 2

## 0008053611
designator R?, comment 360 Ohm, 125 mW
RES, size 0805, 360 Ohm, 1/8 W, 1%; Manufacturer: Panasonic; Manufacturer Part Number: ERJ-6ENF3600V; Rated Power: 125 mW; Resistance: 360 Ohm; Value: 360 Ohm; Tolerance: +/-1%; Supplier 1 URL: https://www.mouser.vn/ProductDetail/Panasonic/ERJ-6ENF3600V?qs=sGAEpiMZZMtlubZbdhIBIGigBIB3A6R9lBl3j8zMMkE%3D; Supplier 2 URL: https://www.digikey.com/en/products/detail/yageo/RC0805FR-07360RL/727886; Supplier 3 URL: N/A; Packaging: Tape and Reel; Supplier 1: Mouser; Supplier 1 Part Number: 667-ERJ-6ENF3600V; Supplier 2: Digi-Key; Supplier 2 Part Number: 311-360CRTR-ND - Tape & Reel (TR); Supplier 3: thegioiic; Supplier 3 Part Number: OEM; ComponentLink1Description: Datasheet; ComponentLink1URL: https://www.mouser.vn/datasheet/2/315/AOA0000C304-1149620.pdf; Mount: SMD/SMT; Operating Temperature Max: + 85 C; Operating Temperature Min: - 40 C; Package / Case: 0805; LCSC Part #: N/A
footprint RES_0805 (Chip Resistor, 2-Leads, Body 2.05x1.25mm, IPC Medium Density)
simulation model R_Resistor_Default (Model Description)
signal-integrity model Resistor Model
pins: 1, 2

## 0008053615
designator R?, comment 360 Ohm, 125 mW
RES, size 0805, 360 Ohm, 1/8 W, 5%; Manufacturer: Bourns; Manufacturer Part Number: CR0805-JW-361ELF; Rated Power: 125 mW; Resistance: 360 Ohm; Value: 360 Ohm; Tolerance: +/-5%; Supplier 1 URL: https://www.mouser.vn/ProductDetail/Bourns/CR0805-JW-361ELF?qs=%252BcBkmVQIZ2S%2FXKtSNkfUkg%3D%3D; Supplier 2 URL: https://www.digikey.com/en/products/detail/bourns-inc/CR0805-JW-361ELF/3785307; Supplier 3 URL: https://www.thegioiic.com/dien-tro-360-ohm-0805-5; Packaging: Tape and Reel; Supplier 1: Mouser; Supplier 1 Part Number: 652-CR0805JW-361ELF; Supplier 2: Digi-Key; Supplier 2 Part Number: 118-CR0805-JW-361ELFTR-ND - Tape & Reel (TR); Supplier 3: thegioiic; Supplier 3 Part Number: OEM; ComponentLink1Description: Datasheet; ComponentLink1URL: https://www.mouser.vn/datasheet/2/54/cr-1858361.pdf; Mount: SMD/SMT; Operating Temperature Max: + 85 C; Operating Temperature Min: - 40 C; Package / Case: 0805; LCSC Part #: N/A
footprint RES_0805 (Chip Resistor, 2-Leads, Body 2.05x1.25mm, IPC Medium Density)
simulation model R_Resistor_Default (Model Description)
signal-integrity model Resistor Model
pins: 1, 2

## 0008053651
designator R?, comment 3.6 MOhm, 125 mW
RES, size 0805, 3.6 MOhm, 1/8 W, 1%; Manufacturer: Vishay / Dale; Manufacturer Part Number: CRCW08053M60FKEA; Rated Power: 125 mW; Tolerance: +/-1%; Resistance: 3.6 MOhm; Supplier 1 URL: https://www.mouser.vn/ProductDetail/Vishay-Dale/CRCW08053M60FKEA?qs=DfgzkkA2Qx1vRqdcWwqQnA%3D%3D; Supplier 2 URL: https://www.digikey.com/en/products/detail/vishay-dale/CRCW08053M60FKEA/1176078; Supplier 3 URL: N/A; Value: 3.6 MOhm; Packaging: Tape and Reel; Supplier 1: Mouser; Supplier 1 Part Number: 71-CRCW08053M60FKEA; Supplier 2: Digi-Key; Supplier 2 Part Number: 541-3.60MCTR-ND - Tape & Reel (TR); Supplier 3: thegioiic; Supplier 3 Part Number: OEM; ComponentLink1Description: Datasheet; ComponentLink1URL: https://www.vishay.com/doc?20035; Mount: SMD/SMT; Operating Temperature Max: + 85 C; Operating Temperature Min: - 40 C; Package / Case: 0805; LCSC Part #: N/A
footprint RES_0805 (Chip Resistor, 2-Leads, Body 2.05x1.25mm, IPC Medium Density)
simulation model R_Resistor_Default (Model Description)
signal-integrity model Resistor Model
pins: 1, 2

## 0008053655
designator R?, comment 3.6 MOhm, 125 mW
RES, size 0805, 3.6 MOhm, 1/8 W, 5%; Manufacturer: Panasonic; Manufacturer Part Number: ERJ-6GEYJ365V; Rated Power: 125 mW; Tolerance: +/-5%; Resistance: 3.6 MOhm; Supplier 1 URL: https://www.mouser.vn/ProductDetail/Panasonic/ERJ-6GEYJ365V?qs=YMBIwoNQYdWT6WkHu%252Bwzuw%3D%3D; Supplier 2 URL: https://www.digikey.com/en/products/detail/panasonic-electronic-components/ERJ-6GEYJ365V/282181; Supplier 3 URL: N/A; Value: 3.6 MOhm; Packaging: Tape and Reel; Supplier 1: Mouser; Supplier 1 Part Number: 667-ERJ-6GEYJ365V; Supplier 2: Digi-Key; Supplier 2 Part Number: P3.6MATR-ND - Tape & Reel (TR); Supplier 3: thegioiic; Supplier 3 Part Number: OEM; ComponentLink1Description: Datasheet; ComponentLink1URL: https://www.mouser.vn/datasheet/2/315/AOA0000C301-1488782.pdf; Mount: SMD/SMT; Operating Temperature Max: + 85 C; Operating Temperature Min: - 40 C; Package / Case: 0805; LCSC Part #: N/A
footprint RES_0805 (Chip Resistor, 2-Leads, Body 2.05x1.25mm, IPC Medium Density)
simulation model R_Resistor_Default (Model Description)
signal-integrity model Resistor Model
pins: 1, 2

## 0008053701
designator R?, comment 37 Ohm, 125 mW
RES, size 0805, 37 Ohm, 1/8 W, 1%; Manufacturer: KOA Speer Electronics, Inc.; Manufacturer Part Number: RN73R2ATTD37R0F50; Rated Power: 125 mW; Resistance: 37 Ohm; Value: 37 Ohm; Tolerance: +/-1%; Supplier 1 URL: N/A; Supplier 2 URL: https://www.digikey.com/en/products/detail/koa-speer-electronics-inc/RN73R2ATTD37R0F50/10031868; Supplier 3 URL: N/A; Packaging: Tape and Reel; Supplier 1: Mouser; Supplier 1 Part Number: N/A; Supplier 2: Digi-Key; Supplier 2 Part Number: 2019-RN73R2ATTD37R0F50TR-ND - Tape & Reel (TR); Supplier 3: thegioiic; Supplier 3 Part Number: OEM; ComponentLink1Description: Datasheet; ComponentLink1URL: https://media.digikey.com/pdf/Data%20Sheets/KOA%20Speer/RN73R_Type_DS.pdf; Mount: SMD/SMT; Operating Temperature Max: + 85 C; Operating Temperature Min: - 40 C; Package / Case: 0805; LCSC Part #: N/A
footprint RES_0805 (Chip Resistor, 2-Leads, Body 2.05x1.25mm, IPC Medium Density)
simulation model R_Resistor_Default (Model Description)
signal-integrity model Resistor Model
pins: 1, 2

## 0008053741
designator R?, comment 370 kOhm, 125 mW
RES, size 0805, 370 kOhm, 1/8 W, 1%; Manufacturer: Royalohm; Manufacturer Part Number: 0805W8F3703T5E; Rated Power: 125 mW; Tolerance: +/-1%; Resistance: 370 kOhm; Supplier 1 URL: https://www.mouser.vn/ProductDetail/Royalohm/0805W8F3703T5E?qs=e8oIoAS2J1QGY4HfIoRyBQ%3D%3D; Supplier 2 URL: https://www.digikey.com/en/products/detail/koa-speer-electronics-inc/RN73R2ATTD3703F50/10031730; Supplier 3 URL: N/A; Value: 370 kOhm; Packaging: Tape and Reel; Supplier 1: Mouser; Supplier 1 Part Number: 303-0805W8F3703T5E; Supplier 2: Digi-Key; Supplier 2 Part Number: 2019-RN73R2ATTD3703F50TR-ND - Tape & Reel (TR); Supplier 3: thegioiic; Supplier 3 Part Number: OEM; ComponentLink1Description: Datasheet; ComponentLink1URL: https://www.mouser.vn/datasheet/2/1365/1-3044649.pdf; Mount: SMD/SMT; Operating Temperature Max: + 85 C; Operating Temperature Min: - 40 C; Package / Case: 0805; LCSC Part #: N/A
footprint RES_0805 (Chip Resistor, 2-Leads, Body 2.05x1.25mm, IPC Medium Density)
simulation model R_Resistor_Default (Model Description)
signal-integrity model Resistor Model
pins: 1, 2

## 0008053831
designator R?, comment 38 kOhm, 125 mW
RES, size 0805, 38 kOhm, 1/8 W, 1%; Manufacturer: Vishay / Dale; Manufacturer Part Number: CRCW080538K0FKTA; Rated Power: 125 mW; Resistance: 38 kOhm; Value: 38 kOhm; Tolerance: +/-1%; Supplier 1 URL: https://www.mouser.vn/ProductDetail/Vishay-Dale/CRCW080538K0FKTA?qs=G%2FXU5Rmt380cCuBsVuvGBg%3D%3D; Supplier 2 URL: https://www.digikey.com/en/products/detail/vishay-dale/CRCW080538K0FKTA/5075022?s=N4IgjCBcoMxaBjKAzAhgGwM4FMA0IB7KAbXDBggF18AHAFyhAGU6AnASwDsBzEAX3xgATAE4I0EEkhoseQiRAwRMIQA4Q1EPUYsOPfviEAGVQFZ4klBhz4ikUjFUACANYB5ABYBbTBtoNIEABVTnY6N2QAWWxUTABXVmx%2BPj4gA; Supplier 3 URL: N/A; Packaging: Tape and Reel; Supplier 1: Mouser; Supplier 1 Part Number: 71-CRCW080538K0FKTA; Supplier 2: Digi-Key; Supplier 2 Part Number: CRCW080538K0FKTA-ND - Tape & Reel (TR); Supplier 3: thegioiic; Supplier 3 Part Number: OEM; ComponentLink1Description: Datasheet; ComponentLink1URL: https://www.vishay.com/doc?20008; Mount: SMD/SMT; Operating Temperature Max: + 85 C; Operating Temperature Min: - 40 C; Package / Case: 0805; LCSC Part #: N/A
footprint RES_0805 (Chip Resistor, 2-Leads, Body 2.05x1.25mm, IPC Medium Density)
simulation model R_Resistor_Default (Model Description)
signal-integrity model Resistor Model
pins: 1, 2

## 0008053921
designator R?, comment 3.9 kOhm, 125 mW
RES, size 0805, 3.9 kOhm, 1/8 W, 1%; Manufacturer: Bourns; Manufacturer Part Number: CR0805-FX-3901ELF; Rated Power: 125 mW; Tolerance: +/-1%; Resistance: 3.9 kOhm; Supplier 1 URL: https://www.mouser.vn/ProductDetail/Bourns/CR0805-FX-3901ELF?qs=TYKCbaKwe1D27AYhD5%2FCCg%3D%3D; Supplier 2 URL: https://www.digikey.com/en/products/detail/bourns-inc/CR0805-FX-3901ELF/3784914; Supplier 3 URL: https://www.thegioiic.com/dien-tro-3-9-kohm-0805-1; Value: 3.9 kOhm; Packaging: Tape and Reel; Supplier 1: Mouser; Supplier 1 Part Number: 652-CR0805FX-3901ELF; Supplier 2: Digi-Key; Supplier 2 Part Number: 118-CR0805-FX-3901ELFTR-ND - Tape & Reel (TR); Supplier 3: thegioiic; Supplier 3 Part Number: OEM; ComponentLink1Description: Datasheet; ComponentLink1URL: https://www.mouser.vn/datasheet/2/54/cr-1858361.pdf; Mount: SMD/SMT; Operating Temperature Max: + 85 C; Operating Temperature Min: - 40 C; Package / Case: 0805; LCSC Part #: N/A
footprint RES_0805 (Chip Resistor, 2-Leads, Body 2.05x1.25mm, IPC Medium Density)
simulation model R_Resistor_Default (Model Description)
signal-integrity model Resistor Model
pins: 1, 2

## 0008053925
designator R?, comment 3.9 kOhm, 125 mW
RES, size 0805, 3.9 kOhm, 1/8 W, 5%; Manufacturer: YAGEO; Manufacturer Part Number: AC0805JR-073K9L; Rated Power: 125 mW; Tolerance: +/-5%; Resistance: 3.9 kOhm; Supplier 1 URL: https://www.mouser.vn/ProductDetail/YAGEO/AC0805JR-073K9L?qs=TI15CVqcli3H7xgSN0L6lg%3D%3D; Supplier 2 URL: https://www.digikey.com/en/products/detail/yageo/RC0805JR-073K9L/728305; Supplier 3 URL: https://www.thegioiic.com/dien-tro-3-9-kohm-0805-5; Value: 3.9 kOhm; Packaging: Tape and Reel; Supplier 1: Mouser; Supplier 1 Part Number: 603-AC0805JR-073K9L; Supplier 2: Digi-Key; Supplier 2 Part Number: 311-3.9KARTR-ND - Tape & Reel (TR); Supplier 3: thegioiic; Supplier 3 Part Number: OEM; ComponentLink1Description: Datasheet; ComponentLink1URL: https://www.mouser.vn/datasheet/2/447/PYu_AC_51_RoHS_L_9-3005297.pdf; Mount: SMD/SMT; Operating Temperature Max: + 85 C; Operating Temperature Min: - 40 C; Package / Case: 0805; LCSC Part #: N/A
footprint RES_0805 (Chip Resistor, 2-Leads, Body 2.05x1.25mm, IPC Medium Density)
simulation model R_Resistor_Default (Model Description)
signal-integrity model Resistor Model
pins: 1, 2

## 0008054021
designator R?, comment 4 kOhm, 125 mW
RES, size 0805, 4 kOhm, 1/8 W, 1%; Manufacturer: Vishay / Dale; Manufacturer Part Number: CRCW08054K00FKTA; Rated Power: 125 mW; Resistance: 4 kOhm; Value: 4 kOhm; Tolerance: +/-1%; Supplier 1 URL: https://www.mouser.vn/ProductDetail/Vishay-Dale/CRCW08054K00FKTA?qs=O7pb%252BE5gJ7RWLcqNUk6AxA%3D%3D; Supplier 2 URL: https://www.digikey.com/en/products/detail/vishay-dale/CRCW08054K00FKTA/5075408; Supplier 3 URL: N/A; Packaging: Tape and Reel; Supplier 1: Mouser; Supplier 1 Part Number: 71-CRCW0805-4K; Supplier 2: Digi-Key; Supplier 2 Part Number: 541-CRCW08054K00FKTATR-ND - Tape & Reel (TR); Supplier 3: thegioiic; Supplier 3 Part Number: OEM; ComponentLink1Description: Datasheet; ComponentLink1URL: https://www.vishay.com/doc?20008; Mount: SMD/SMT; Operating Temperature Max: + 85 C; Operating Temperature Min: - 40 C; Package / Case: 0805; LCSC Part #: N/A
footprint RES_0805 (Chip Resistor, 2-Leads, Body 2.05x1.25mm, IPC Medium Density)
simulation model R_Resistor_Default (Model Description)
signal-integrity model Resistor Model
pins: 1, 2

## 0008054221
designator R?, comment 4.2 kOhm, 125 mW
RES, size 0805, 4.2 kOhm, 1/5W, 1%; Rated Power: 125 mW; Tolerance: +/-1%; Resistance: 4.2 kOhm; Supplier 1 URL: N/A; Supplier 2 URL: https://www.digikey.com/en/products/detail/vpg-foil-resistors/Y16244K20000F9W/4230261?s=N4IgjCBcoMxaBjKAzAhgGwM4FMA0IB7KAbXDBggF18AHAFyhAGU6AnASwDsBzEAX3wAmAAwAOAKzwQSSGix5CJEABYAdIIAEAawDyACwC2mENRD1GAVU7s6O5AFlsqTAFdW2fgJCCl7zO0w6AlYQfDFhSUo%2BIA; Supplier 3 URL: N/A; Value: 4.2 kOhm; Packaging: Tape and Reel; Supplier 1: Mouser; Supplier 1 Part Number: N/A; Supplier 2: Digi-Key; Supplier 2 Part Number: Y16244K20000F9W-ND; Supplier 3: thegioiic; Supplier 3 Part Number: OEM; Manufacturer: N/A; Manufacturer Part Number: N/A; ComponentLink1Description: Datasheet; ComponentLink1URL: N/A; Mount: SMD/SMT; Operating Temperature Max: + 85 C; Operating Temperature Min: - 40 C; Package / Case: 0805; LCSC Part #: N/A
footprint RES_0805 (Chip Resistor, 2-Leads, Body 2.05x1.25mm, IPC Medium Density)
simulation model R_Resistor_Default (Model Description)
signal-integrity model Resistor Model
pins: 1, 2

## 0008054321
designator R?, comment 4.3 kOhm, 125 mW
RES, size 0805, 4.3 kOhm, 1/8W, 1%; Rated Power: 125 mW; Tolerance: +/-1%; Supplier 1 URL: https://www.mouser.vn/ProductDetail/Bourns/CR0805-FX-4301ELF?qs=sGAEpiMZZMtG0KNrPCHnjfC2zYK6Lg3%2FBHUTuTFrqKo%3D; Supplier 2 URL: https://www.digikey.com/en/products/detail/stackpole-electronics-inc/RMCF0805FT4K30/1760198; Resistance: 4.3 kOhm; Supplier 3 URL: N/A; Value: 4.3 kOhm; Packaging: Tape and Reel; Supplier 1: Mouser; Supplier 1 Part Number: 652-CR0805FX-4301ELF; Supplier 2: Digi-Key; Supplier 2 Part Number: RMCF0805FT4K30DKR-ND; Supplier 3: thegioiic; Supplier 3 Part Number: OEM; Manufacturer: N/A; Manufacturer Part Number: N/A; ComponentLink1Description: Datasheet; ComponentLink1URL: N/A; Mount: SMD/SMT; Operating Temperature Max: + 85 C; Operating Temperature Min: - 40 C; Package / Case: 0805; LCSC Part #: N/A
footprint RES_0805 (Chip Resistor, 2-Leads, Body 2.05x1.25mm, IPC Medium Density)
simulation model R_Resistor_Default (Model Description)
signal-integrity model Resistor Model
pins: 1, 2

## 0008054325
designator R?, comment 4.3 kOhm, 125 mW
RES, size 0805, 4.3 kOhm, 1/8W, 1%; Rated Power: 125 mW; Tolerance: +/-1%; Resistance: 4.3 kOhm; Supplier 1 URL: https://www.mouser.vn/ProductDetail/YAGEO/AC0805JR-074K3L?qs=TI15CVqcli3mEGJiw0eocw%3D%3D; Supplier 2 URL: https://www.digikey.com/en/products/detail/yageo/RC0805JR-074K3L/728324; Supplier 3 URL: N/A; Value: 4.3 kOhm; Packaging: Tape and Reel; Supplier 1: Mouser; Supplier 1 Part Number: 603-AC0805JR-074K3L; Supplier 2: Digi-Key; Supplier 2 Part Number: 311-4.3KARTR-ND; Supplier 3: thegioiic; Supplier 3 Part Number: OEM; Manufacturer: N/A; Manufacturer Part Number: N/A; ComponentLink1Description: Datasheet; ComponentLink1URL: N/A; Mount: SMD/SMT; Operating Temperature Max: + 85 C; Operating Temperature Min: - 40 C; Package / Case: 0805; LCSC Part #: N/A
footprint RES_0805 (Chip Resistor, 2-Leads, Body 2.05x1.25mm, IPC Medium Density)
simulation model R_Resistor_Default (Model Description)
signal-integrity model Resistor Model
pins: 1, 2

## 0008054335
designator R?, comment 43 kOhm, 125 mW
RES, size 0805, 43 kOhm, 1/8W, 1%; Resistance: 43 kOhm; Rated Power: 125 mW; Value: 43 kOhm; Tolerance: +/-1%; Supplier 1 URL: https://www.mouser.vn/ProductDetail/YAGEO/RC0805JR-0743KL?qs=fRxXYNj8ftFNnTPBpvTm6A%3D%3D; Supplier 2 URL: https://www.digikey.com/en/products/detail/yageo/RC0805JR-0743KL/728332; Supplier 3 URL: N/A; Packaging: Tape and Reel; Supplier 1: Mouser; Supplier 1 Part Number: 603-RC0805JR-0743KL; Supplier 2: Digi-Key; Supplier 2 Part Number: 311-43KARTR-ND; Supplier 3: thegioiic; Supplier 3 Part Number: OEM; Manufacturer: N/A; Manufacturer Part Number: N/A; ComponentLink1Description: Datasheet; ComponentLink1URL: N/A; Mount: SMD/SMT; Operating Temperature Max: + 85 C; Operating Temperature Min: - 40 C; Package / Case: 0805; LCSC Part #: N/A
footprint RES_0805 (Chip Resistor, 2-Leads, Body 2.05x1.25mm, IPC Medium Density)
simulation model R_Resistor_Default (Model Description)
signal-integrity model Resistor Model
pins: 1, 2